# EAGLE library part WE-TVS_82400152 (library WE-TVS_82400152)
TVS Diode Array WE-TVS, High Speed Series - Low capazity - No leakage current - Low clamping voltage - high ESD voltage protection -- USB 1.0 - 2.0 Flow Thru Design
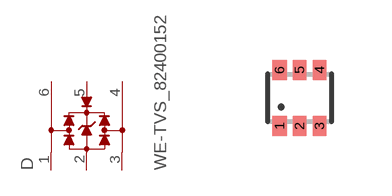
[diagram p0: symbol with the pads of WE-TVS_SOT563; footprint WE-TVS_SOT563]

Designator prefix D

## WE-TVS_82400152 (MPN: 82400152; OC_FARNELL: 1825874; OC_NEWARK: 79R6946; PACKAGE: SOT563; SUPPLIER: Wuerth Elektronik)  [WE-TVS_SOT563]
1  1  pas
2  GND  pwr
3  2  pas
4  3  pas
5  VDD  pwr
6  4  pas

## Footprint WE-TVS_SOT563 (pad centres in mm)
TVS Diode Array WE-TVS
smd 0.35 x 0.5: 1 -0.5,-0.7; 2 0,-0.7; 3 0.5,-0.7; 4 0.5,0.7; 5 0,0.7; 6 -0.5,0.7